# EAGLE library part MCP3202-CI_P (library MCP3202-CI_P)
Microchip MCP3202-CI/P, 12 bit Serial ADC, Differential Input, 8-Pin PDIP Source: Datasheet <https://componentsearchengine.com/Datasheets/2/MCP3202-CI_P.pdf>
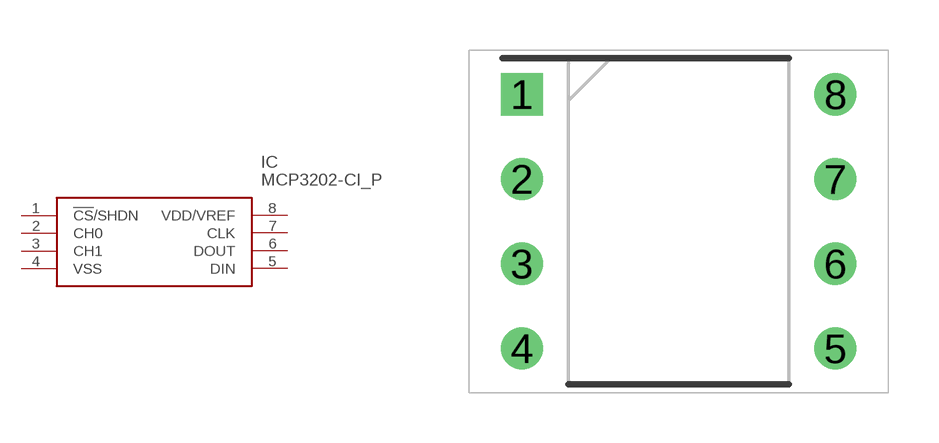
[diagram p0: symbol with the pads of DIP940W56P254L946H432Q8N; footprint DIP940W56P254L946H432Q8N]

Designator prefix IC

## MCP3202-CI_P (Arrow_Part_Number: MCP3202-CI/P; Arrow_Price-Stock: https://www.arrow.com/en/products/mcp3202-cip/microchip-technology?region=europe; Description: Microchip MCP3202-CI/P, 12 bit Serial ADC, Differential Input, 8-Pin PDIP; Height: 4.32mm; Manufacturer_Name: Microchip; Manufacturer_Part_Number: MCP3202-CI/P; Mouser_Part_Number: 579-MCP3202-CI/P; Mouser_Price-Stock: https://www.mouser.co.uk/ProductDetail/Microchip-Technology/MCP3202-CI-P?qs=Ux5rHyN1IXT1Ycow8oxaBQ%3D%3D)  [DIP940W56P254L946H432Q8N]
1  !CS!/SHDN
2  CH0
3  CH1
4  VSS
5  DIN
6  DOUT
7  CLK
8  VDD/VREF

## Footprint DIP940W56P254L946H432Q8N (pad centres in mm)
MCP3202CI/P
drill 0.76 pad 1.16 square: 1 -4.698,3.81
drill 0.76 pad 1.16: 2 -4.698,1.27; 3 -4.698,-1.27; 4 -4.698,-3.81; 5 4.698,-3.81; 6 4.698,-1.27; 7 4.698,1.27; 8 4.698,3.81